# EAGLE library part 692112030100 (library 692112030100)
Wurth Elektronik Male Right Angle Through Hole Version 3 Type A USB Connector, 30 V ac, 0.25A WR-COM Source: Datasheet <https://componentsearchengine.com//692112030100.pdf>
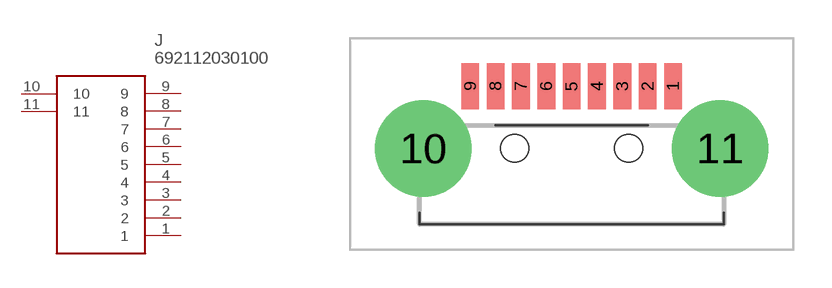
[diagram p0: symbol with the pads of 692112030100; footprint 692112030100]

Designator prefix J

## 692112030100 (Description: Wurth Elektronik Male Right Angle Through Hole Version 3 Type A USB Connector, 30 V ac, 0.25A WR-COM; Height: 1mm; Manufacturer_Name: Wurth Elektronik; Manufacturer_Part_Number: 692112030100; Mouser2_Part_Number: 710-692112030100; Mouser2_Price-Stock: https://www.mouser.com/Search/Refine.aspx?Keyword=710-692112030100)  [692112030100]
1  1
2  2
3  3
4  4
5  5
6  6
7  7
8  8
9  9
10  10
11  11

## Footprint 692112030100 (pad centres in mm)
692112030100
smd 0.7 x 1.8: 1 4,2.275; 2 3,2.275; 3 2,2.275; 4 1,2.275; 5 0,2.275; 6 -1,2.275; 7 -2,2.275; 8 -3,2.275; 9 -4,2.275
drill 2.693 pad 3.8: 10 -5.85,-0.175; 11 5.85,-0.175
hole 1.1 at -2.25,-0.175
hole 1.1 at 2.25,-0.175